# EAGLE library part CD40109BPWR (library MILESTONE4LIB_C)
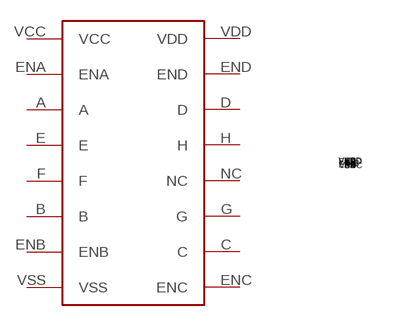
[diagram p4: symbol with the pads of 16-TSSOP; footprint 16-TSSOP]

Designator prefix -

## CD40109BPWR  [16-TSSOP]
A  A
B  B
C  C
D  D
E  E
ENA  ENA
ENB  ENB
ENC  ENC
END  END
F  F
G  G
H  H
NC  NC
VCC  VCC
VDD  VDD
VSS  VSS

## Footprint 16-TSSOP (pad centres in mm)
smd 0.038 x 0.011: A -0.074,0.025; B -0.074,-0.025; C 0.074,-0.041; D 0.074,0.025; E -0.074,0.008; ENA -0.074,0.041; ENB -0.074,-0.041; ENC 0.074,-0.058; END 0.074,0.041; F -0.074,-0.008; G 0.074,-0.025; H 0.074,0.008; NC 0.074,-0.008; VCC -0.074,0.058; VDD 0.074,0.058; VSS -0.074,-0.058